# EAGLE library part RFM12_DIP (library rfm12)
RFM12 is a low costing ISM band transceiver module implemented with unique PLL. It works signal ranges from 315/433/868/915MHZ bands, comply with FCC, ETSI regulation. The SPI interface is used to communicate with microcontroller for parameter setting.
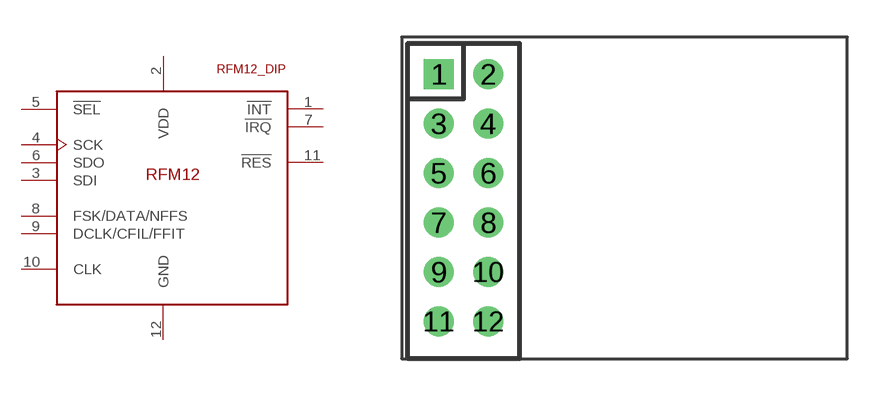
[diagram p0: symbol with the pads of DIL-2MM-2X06; footprint DIL-2MM-2X06]

Designator prefix -

## RFM12_DIP  [DIL-2MM-2X06]
1  !INT
2  VDD  sup
3  SDI  in
4  SCK  in
5  !SEL  in
6  SDO  out
7  !IRQ  out
8  FSK/DATA/NFFS
9  DCLK/CFIL/FFIT
10  CLK  out
11  !RES
12  GND  pas

## Footprint DIL-2MM-2X06 (pad centres in mm)
PIN HEADER - 2MM"
drill 0.711 square: 1 -1,5
drill 0.711 round: 2 1,5; 3 -1,3; 4 1,3; 5 -1,1; 6 1,1; 7 -1,-1; 8 1,-1; 9 -1,-3; 10 1,-3; 11 -1,-5; 12 1,-5